# Altium footprint library 3PhaseMotorDriver.PcbLib: 53 footprints (part 2 of 4)
Each footprint in its own frame and in the unit in brackets; x right, y up, seen from the top. Pads: shape width x height; smd on the part's side, far side on the other; paste and mask are expansions set on the pad; w line width, h text height; cw(c..) or ccw(c..) is an arc to the next point about the centre after c.
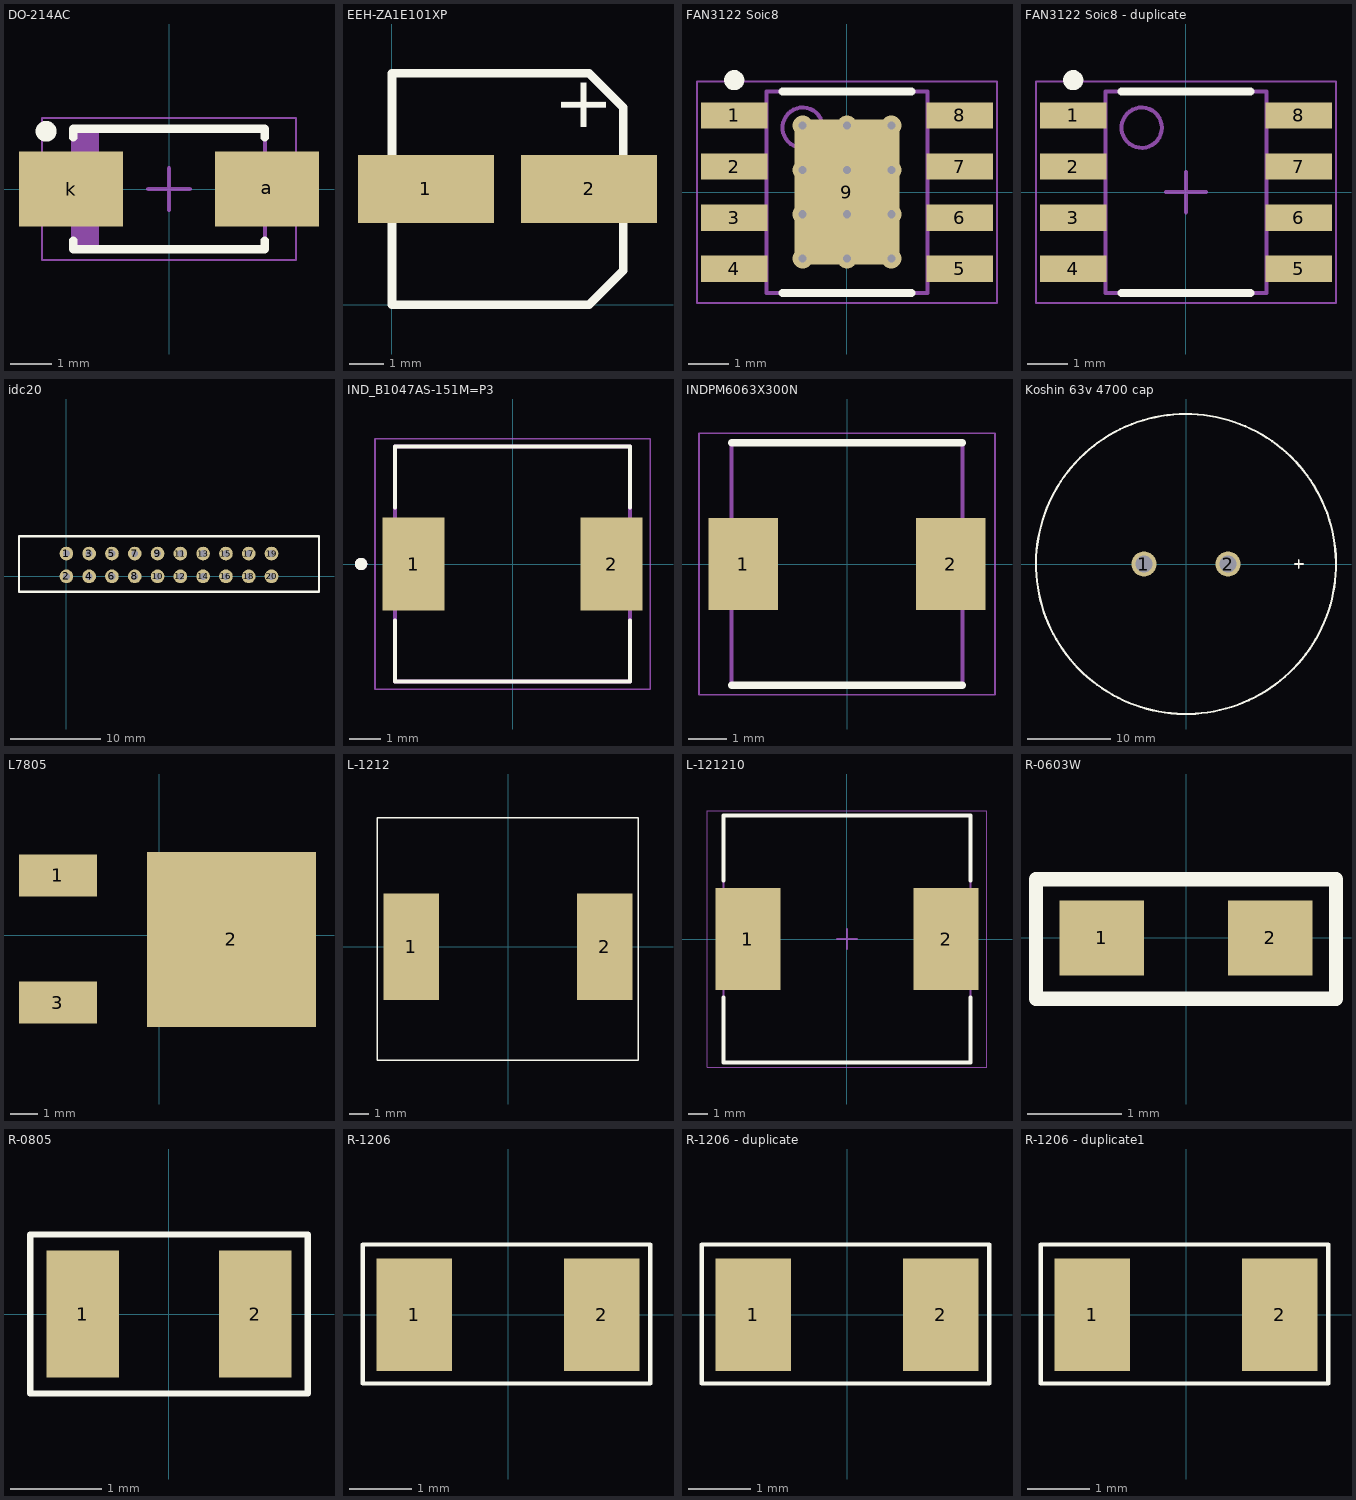
[diagram p1: the footprints below, top view; thin cyan lines are the x and y axes]

## DO-214AC [mm]
height 1.35
pads (2):
  rect 2.5x1.8 smd: a(2.35,0) k(-2.35,0)
Top Overlay:
  circle w0.25: c-2.95,1.385 r0.125
  lines w0.2: -2.3,-1.235 -2.3,-1.45 2.3,-1.45 2.3,-1.235 ; -2.3,1.235 -2.3,1.45 2.3,1.45 2.3,1.235
Top Assembly:
  rectangle: -2.3,-1.45 -1.681,1.45
  lines w0.1: -2.3,-1.45 -2.3,1.45 2.3,1.45 2.3,-1.45 -2.3,-1.45
Top Courtyard:
  lines w0.05: -3.05,-1.7 -3.05,1.7 3.05,1.7 3.05,-1.7 -3.05,-1.7
  lines w0.1: -0.5,0 0.5,0 ; 0,-0.5 0,0.5
3D body "User Library-DO-214AC(SMA).STEP": height 2.3, standoff 0.01, extent -2.768,-1.422 2.718,1.372

## EEH-ZA1E101XP [mm]
pads (2):
  rect 4x2 smd: 1(1,3.4) 2(5.8,3.4)
Top Overlay:
  lines w0.254: 0,2.4 0,0 5.8,0 6.8,1 6.8,2.4 ; 0,4.4 0,6.8 5.8,6.8 6.8,5.8 6.8,4.3
  text "+" at 6.3,5 h1.52
3D body "User Library-A3D-003-00012.STEP": height 7.7, standoff 0, extent -0.3,0.2 7,6.8

## FAN3122 Soic8 [mm] "SOIC, 8-Leads, Body 4.95x3.95mm, Pitch 1.27mm, Thermal Pad 4.10x3.10mm, IPC Medium Density"
height 1.75
pads (9):
  rect 1.65x0.65 smd: 1(-2.8,1.905) 2(-2.8,0.635) 3(-2.8,-0.635) 4(-2.8,-1.905) 5(2.8,-1.905) 6(2.8,-0.635) 7(2.8,0.635) 8(2.8,1.905)
  rect 2.6x3.6 smd: 9(0,0)
via -1.1,1.65 diameter 0.5 hole 0.2
via 0,1.65 diameter 0.5 hole 0.2
via 1.1,1.65 diameter 0.5 hole 0.2
via -1.1,0.55 diameter 0.5 hole 0.2
via 0,0.55 diameter 0.5 hole 0.2
via 1.1,0.55 diameter 0.5 hole 0.2
via -1.1,-0.55 diameter 0.5 hole 0.2
via 0,-0.55 diameter 0.5 hole 0.2
via 1.1,-0.55 diameter 0.5 hole 0.2
via -1.1,-1.65 diameter 0.5 hole 0.2
via 0,-1.65 diameter 0.5 hole 0.2
via 1.1,-1.65 diameter 0.5 hole 0.2
Top Overlay:
  circle w0.25: c-2.8,2.78 r0.125
  lines w0.2: -1.6,-2.5 1.6,-2.5 ; -1.6,2.5 1.6,2.5
Top Assembly:
  circle w0.1: c-1.1,1.6 r0.5
  lines w0.1: -2,-2.5 -2,2.5 2,2.5 2,-2.5 -2,-2.5
Top Courtyard:
  lines w0.05: -3.725,-2.75 -3.725,2.75 3.725,2.75 3.725,-2.75 -3.725,-2.75
  lines w0.1: -0.5,0 0.5,0 ; 0,-0.5 0,0.5
3D body "User Library-SOIC8_JEDEC_MS-012AA.STEP": height 1.66, standoff -0.09, extent -3.124,-2.55 3.075,2.45

## FAN3122 Soic8 - duplicate [mm] "SOIC, 8-Leads, Body 4.95x3.95mm, Pitch 1.27mm, Thermal Pad 4.10x3.10mm, IPC Medium Density"
height 1.75
pads (8):
  rect 1.65x0.65 smd: 1(-2.8,1.905) 2(-2.8,0.635) 3(-2.8,-0.635) 4(-2.8,-1.905) 5(2.8,-1.905) 6(2.8,-0.635) 7(2.8,0.635) 8(2.8,1.905)
Top Overlay:
  circle w0.25: c-2.8,2.78 r0.125
  lines w0.2: -1.6,-2.5 1.6,-2.5 ; -1.6,2.5 1.6,2.5
Top Assembly:
  circle w0.1: c-1.1,1.6 r0.5
  lines w0.1: -2,-2.5 2,-2.5 2,2.5 -2,2.5 -2,-2.5
Top Courtyard:
  lines w0.05: -3.725,-2.75 3.725,-2.75 3.725,2.75 -3.725,2.75 -3.725,-2.75
  lines w0.1: -0.5,0 0.5,0 ; 0,-0.5 0,0.5
3D body "User Library-SOIC8_JEDEC_MS-012AA.STEP": height 1.66, standoff -0.09, extent -3.124,-2.55 3.075,2.45

## idc20 [mil]
pads (20):
  round 60 hole 30: 1(0,100) 2(0,0) 3(100,100) 4(100,0) 5(200,100) 6(200,0) 7(300,100) 8(300,0) 9(400,100) 10(400,0) 11(500,100) 12(500,0) 13(600,100) 14(600,0) 15(700,100) 16(700,0) 17(800,100) 18(800,0) 19(900,100) 20(900,0)
Top Overlay:
  lines w10: -207.8,-67.76 -207.8,-29.53 -207.8,176.18 1108.36,176.18 1108.36,-67.76 -169.57,-67.76 -207.8,-67.76
3D body "20-Pin Shrouded Header (IDC) Straight.stp": height 350.5, standoff -167.85, extent -125,-138.78 1025,230.16

## IND_B1047AS-151M=P3 [mm]
pads (2):
  rect 2x3 smd: 1(-3.2,0) 2(3.2,0)
Top Overlay:
  circle w0.2: c-4.9,0 r0.1
  lines w0.127: -3.8,-1.82 -3.8,-3.8 3.8,-3.8 3.8,-1.82 ; -3.8,1.82 -3.8,3.8 3.8,3.8 3.8,1.82
Mechanical 13:
  circle w0.2: c-4.9,0 r0.1
  lines w0.127: -3.8,-3.8 3.8,-3.8 3.8,3.8 -3.8,3.8 -3.8,-3.8
Mechanical 15:
  lines w0.05: -4.45,-4.05 4.45,-4.05 4.45,4.05 -4.45,4.05 -4.45,-4.05
3D body "B1047AS-221M=P3--3DModel-STEP-46669.STEP": height 5.01, standoff 0.01, extent -3.8,-3.8 3.8,3.8

## INDPM6063X300N [mm]
pads (2):
  rect 1.8x2.4 smd: 1(-2.7,0) 2(2.7,0)
Top Overlay:
  lines w0.2: -3,-3.15 3,-3.15 ; -3,3.15 3,3.15
Mechanical 13:
  lines w0.1: -3,-3.15 3,-3.15 3,3.15 -3,3.15 -3,-3.15
Mechanical 15:
  lines w0.05: -3.85,-3.4 3.85,-3.4 3.85,3.4 -3.85,3.4 -3.85,-3.4
3D body "B82462G4333M000.stp": height 3, standoff 0, extent -3,-3.15 3,3.15

## Koshin 63v 4700 cap [mm]
pads (2):
  round 3 hole 2: 1(-5.05,0) 2(5.05,0)
Top Overlay:
  lines w0.2: 13.032,0 14.048,0 ; 13.54,-0.508 13.54,0.508
  lines w0.254: 17.999,0.194 cw(c0,0) 17.998,0.261
3D body "U1-YY.step": height 49.77, standoff -5.58, extent -11.095,-11.176 10.901,10.82

## L7805 [mm] "l7805"
pads (3):
  rect 2.8x1.5 smd: 1(-3.65,2.15) 3(-3.65,-2.422)
  rect 6.1x6.3 smd: 2(2.6,-0.15)
3D body "l7805.STEP": height 2.3, standoff 0, extent -4.662,-3.3 5.062,3.1

## L-1212 [mm]
pads (2):
  rect 2.8x5.4 smd: 1(-4.9,0) 2(4.9,0)
Top Overlay:
  lines w0.07: -6.625,-5.75 -6.625,6.525 6.6,6.525 6.6,-5.75 -6.625,-5.75

## L-121210 [mm] "Precision Wire Wound Inductor, 2-Leads, Body 12.25x12.25mm, IPC Medium Density"
height 10
pads (2):
  rect 3.3x5.15 smd: 1(-5.025,0) 2(5.025,0)
Top Overlay:
  lines w0.2: -6.25,-2.975 -6.25,-6.25 6.25,-6.25 6.25,-2.975 ; -6.25,2.975 -6.25,6.25 6.25,6.25 6.25,2.975
Top Assembly:
  lines w0.1: -6.25,-6.25 6.25,-6.25 6.25,6.25 -6.25,6.25 -6.25,-6.25
Top Courtyard:
  lines w0.05: -7.075,-6.5 7.075,-6.5 7.075,6.5 -7.075,6.5 -7.075,-6.5
  lines w0.1: -0.5,0 0.5,0 ; 0,-0.5 0,0.5
3D body: height 10, standoff 0, extent -6.25,-6.25 6.25,6.25

## R-0603W [mm] "resistor 0603 wave soldering"
pads (2):
  rect 0.9x0.8 smd: 1(-0.9,0) 2(0.9,0)
Top Overlay:
  lines w0.152: -1.6,-0.65 0.5,-0.65 1.6,-0.65 1.6,0.625 0.475,0.625 -1.6,0.625 -1.6,-0.65
3D body "res0603.stp": height 0.45, standoff 0, extent -0.8,-0.4 0.8,0.4

## R-0805 [mm]
pads (2):
  rect 0.8x1.4 smd: 1(-0.95,0) 2(0.95,0)
Top Overlay:
  lines w0.07: -1.525,-0.875 1.525,-0.875 1.525,0.875 -1.525,0.875 -1.525,-0.875
3D body "User Library-CR2012-0805.STEP": height 0.56, standoff -0.04, extent -1,-0.625 1,0.625

## R-1206 [mm]
pads (2):
  rect 1.2x1.8 smd: 1(-1.5,0) 2(1.5,0)
Top Overlay:
  lines w0.07: -0.275,-1.1 2.275,-1.1 ; -0.275,-1.1 -2.325,-1.1 -2.325,0.625 -2.325,1.125 -1.175,1.125 1.125,1.125 2.275,1.125 2.275,-1.1 ; -0.275,-1.1 2.275,-1.1
3D body "User Library-CR3216-1206.step": height 0.56, standoff -0.04, extent -1.6,-0.775 1.6,0.825

## R-1206 - duplicate [mm]
pads (2):
  rect 1.2x1.8 smd: 1(-1.5,0) 2(1.5,0)
Top Overlay:
  lines w0.07: -0.275,-1.1 2.275,-1.1 ; -0.275,-1.1 -2.325,-1.1 -2.325,0.625 -2.325,1.125 -1.175,1.125 1.125,1.125 2.275,1.125 2.275,-1.1 ; -0.275,-1.1 2.275,-1.1
3D body "User Library-CR3216-1206.step": height 0.56, standoff -0.04, extent -1.6,-0.775 1.6,0.825

## R-1206 - duplicate1 [mm]
pads (2):
  rect 1.2x1.8 smd: 1(-1.5,0) 2(1.5,0)
Top Overlay:
  lines w0.07: -0.275,-1.1 2.275,-1.1 ; -0.275,-1.1 -2.325,-1.1 -2.325,0.625 -2.325,1.125 -1.175,1.125 1.125,1.125 2.275,1.125 2.275,-1.1 ; -0.275,-1.1 2.275,-1.1
3D body "User Library-CR3216-1206.step": height 0.56, standoff -0.04, extent -1.6,-0.775 1.6,0.825